# EAGLE library part ATMEGA644 (library sj_mcu)
ATmega644 MCU - 64 KB FLASH, 4 KB SRAM, 2 KB EEPROM
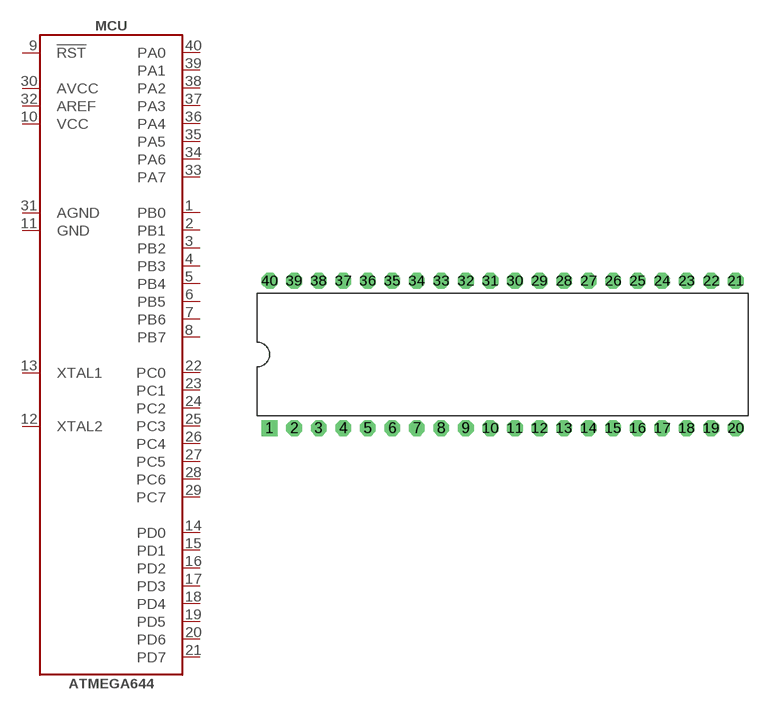
[diagram p4: symbol with the pads of DIP40; footprint DIP40]

Designator prefix MCU

## ATMEGA644-20PU  [DIP40]
1  PB0
2  PB1
3  PB2
4  PB3
5  PB4
6  PB5
7  PB6
8  PB7
9  !RST  pas
10  VCC  pwr
11  GND  pwr
12  XTAL2
13  XTAL1
14  PD0
15  PD1
16  PD2
17  PD3
18  PD4
19  PD5
20  PD6
21  PD7
22  PC0  out
23  PC1  out
24  PC2  out
25  PC3  out
26  PC4  out
27  PC5  out
28  PC6  out
29  PC7  out
30  AVCC  pas
31  AGND  pas
32  AREF  pas
33  PA7
34  PA6
35  PA5
36  PA4
37  PA3
38  PA2
39  PA1
40  PA0

## Footprint DIP40 (pad centres in mm)
40pin Dual In Line Package Wide (0.6 inch)
drill 0.813 pad 1.626 square: 1 -24.13,-7.62
drill 0.813 pad 1.626 octagon: 2 -21.59,-7.62; 3 -19.05,-7.62; 4 -16.51,-7.62; 5 -13.97,-7.62; 6 -11.43,-7.62; 7 -8.89,-7.62; 8 -6.35,-7.62; 9 -3.81,-7.62; 10 -1.27,-7.62; 11 1.27,-7.62; 12 3.81,-7.62; 13 6.35,-7.62; 14 8.89,-7.62; 15 11.43,-7.62; 16 13.97,-7.62; 17 16.51,-7.62; 18 19.05,-7.62; 19 21.59,-7.62; 20 24.13,-7.62; 21 24.13,7.62; 22 21.59,7.62; 23 19.05,7.62; 24 16.51,7.62; 25 13.97,7.62; 26 11.43,7.62; 27 8.89,7.62; 28 6.35,7.62; 29 3.81,7.62; 30 1.27,7.62; 31 -1.27,7.62; 32 -3.81,7.62; 33 -6.35,7.62; 34 -8.89,7.62; 35 -11.43,7.62; 36 -13.97,7.62; 37 -16.51,7.62; 38 -19.05,7.62; 39 -21.59,7.62; 40 -24.13,7.62